# EAGLE library part LT3970 (library PowerProducts)
LT-Spice library generated with : ltspice.ulp from: D:/Program Files (x86)/LTC/LTspiceIV/lib/sym/PowerProducts/LT3990*.asy at 07.10.2012 16:47:13
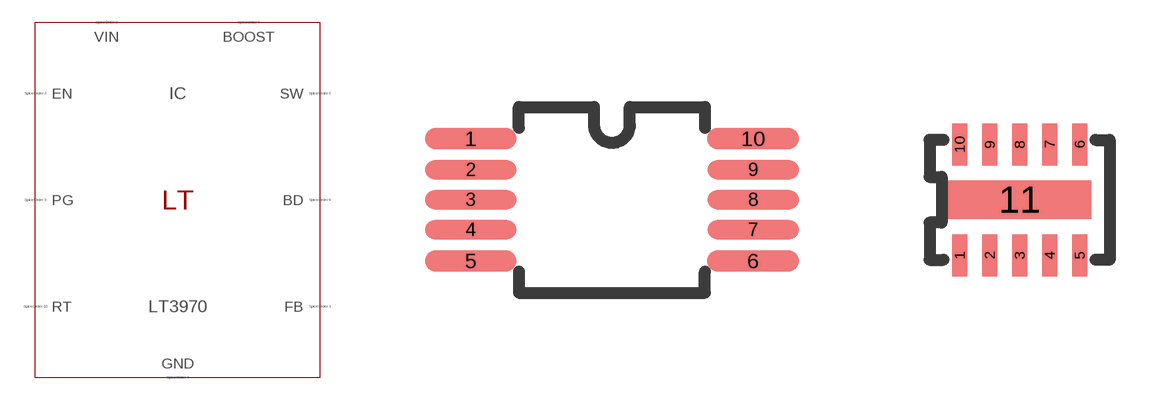
[diagram p108: symbol with the pads of MSOP10(MS); footprints MSOP10(MS), DFN10(DDB)]

Designator prefix IC

## LT3970MS (SPICEMODEL: LT3970.sub; SPICEPREFIX: X; VALUE2: LT3970)  [MSOP10(MS)]
1  FB  pas
2  EN  pas
3  VIN  pas
4  GND  pas
5  GND  pas
6  SW  pas
7  BOOST  pas
8  BD  pas
9  PG  pas
10  RT  pas

## LT3970 (SPICEMODEL: LT3970.sub; SPICEPREFIX: X; VALUE2: LT3970)  [DFN10(DDB)]
1  FB  pas
2  EN  pas
3  VIN  pas
4  GND  pas
5  GND  pas
6  SW  pas
7  BOOST  pas
8  BD  pas
9  PG  pas
10  RT  pas
11  GND  pas

## Footprint MSOP10(MS) (pad centres in mm)
Package generated from: MSOP10(MS).asc (!PADS-POWERPCB-V5.0-BASIC! DESIGN DATABASE ASCII FILE 1.0) with :import-pads-powerpcb-v5.ulp Version 1.0.1 at 04.10.2012 14:11:19
smd 2.295 x 0.54: 1 -3.529,1.53; 5 -3.529,-1.53; 6 3.529,-1.53; 10 3.529,1.53
smd 2.295 x 0.48: 2 -3.529,0.75; 3 -3.529,0; 4 -3.529,-0.75; 7 3.529,-0.75; 8 3.529,0; 9 3.529,0.75

## Footprint DFN10(DDB) (pad centres in mm)
Package generated from: DFN10(DDB).asc (!PADS-POWERPCB-V5.0-BASIC! DESIGN DATABASE ASCII FILE 1.0) with :import-pads-powerpcb-v5.ulp Version 1.0.1 at 04.10.2012 14:11:16
smd 0.375 x 1.05: 1 -1.5,-1.387; 2 -0.75,-1.387; 3 0,-1.387; 4 0.75,-1.387; 5 1.5,-1.387; 6 1.5,1.387; 7 0.75,1.387; 8 0,1.387; 9 -0.75,1.387; 10 -1.5,1.387
smd 3.585 x 0.96: 11 0,0